# Altium footprint library MGNGSQ4_Dongles.PcbLib: 13 footprints
Each footprint in its own frame and in the unit in brackets; x right, y up, seen from the top. Pads: shape width x height; smd on the part's side, far side on the other; paste and mask are expansions set on the pad; w line width, h text height; cw(c..) or ccw(c..) is an arc to the next point about the centre after c.
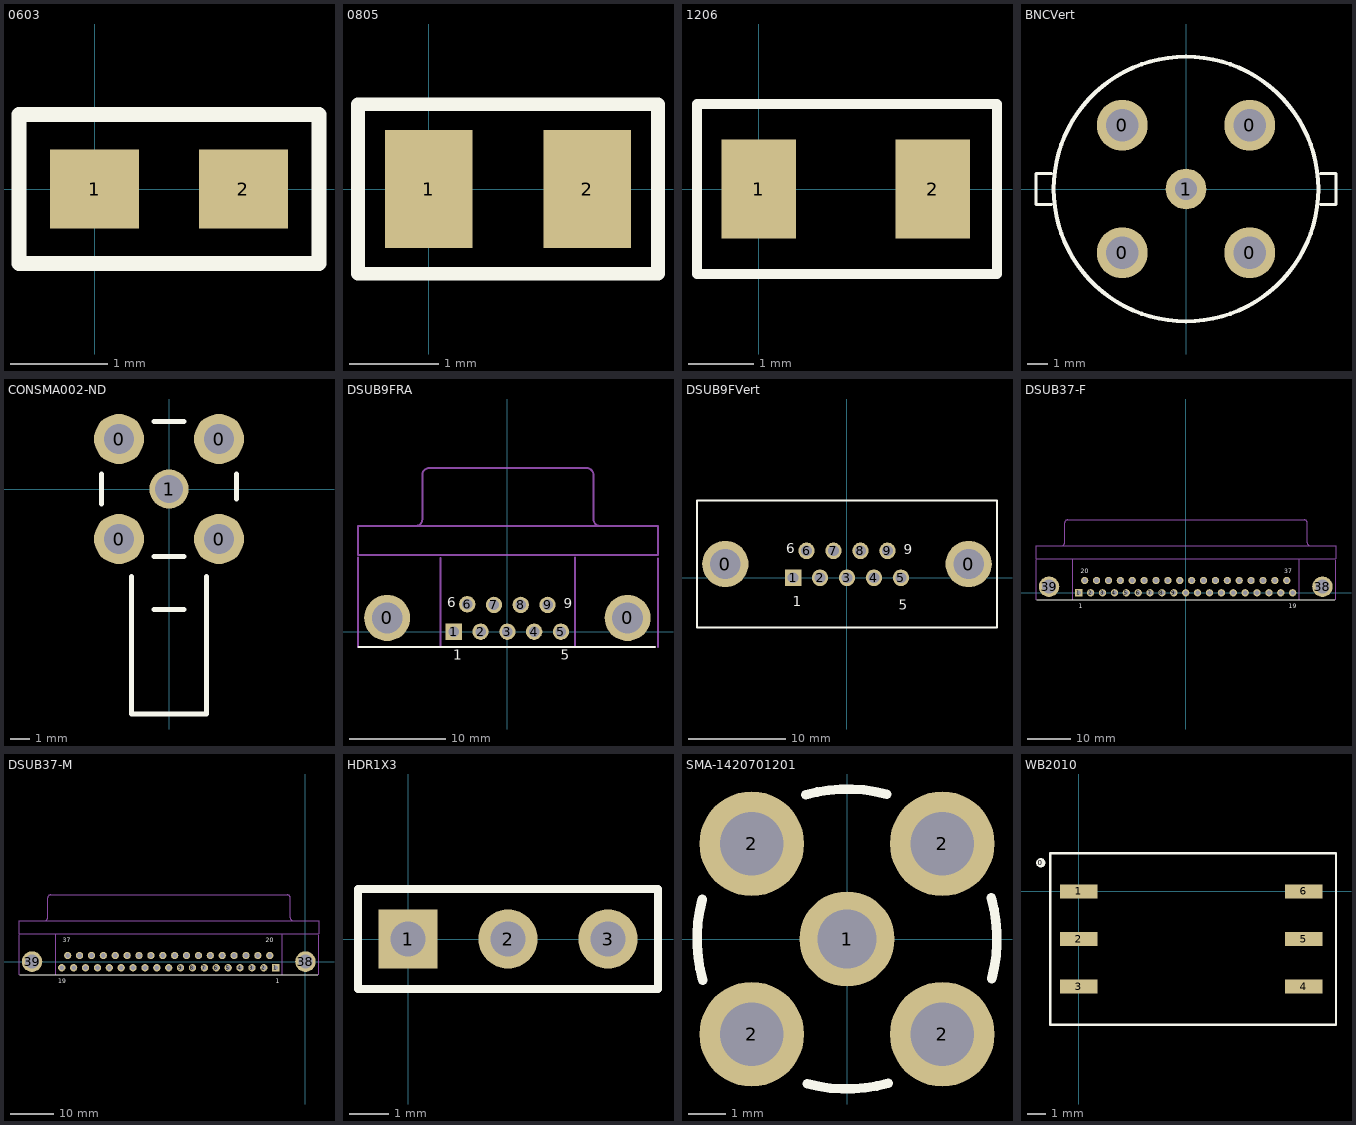
[diagram p0: the footprints below, top view; thin cyan lines are the x and y axes]

## 0603 [mil]
pads (2):
  rect 36x32 smd: 1(0,0) 2(60,0)
Top Overlay:
  lines w6: -30.5,-30 -30.5,30 90.5,30 90.5,-30 -30.5,-30
3D body: height 39.37, standoff 0, extent -15,-15 75,15

## 0805 [mil]
pads (2):
  rect 38.5x52 smd: 1(0,0) 2(70,0)
Top Overlay:
  lines w6: -31.25,-37.5 101.25,-37.5 101.25,37.5 -31.25,37.5 -31.25,-37.5

## 1206 [mil]
pads (2):
  rect 45x60 smd: 1(0,0) 2(105,0)
Top Overlay:
  lines w6: -37.4,-51.18 143.7,-51.18 143.7,51.18 -37.4,51.18 -37.4,-51.18
3D body: height 39.37, standoff 0, extent -30,-45 135,45

## BNCVert [mm] "BNCVert"
pads (5):
  round 2.5 hole 1.6: 0(-3.13,-3.13) 0(-3.13,3.13) 0(3.13,-3.13) 0(3.13,3.13)
  round 2 hole 1.1: 1(0,0)
Top Overlay:
  circle w0.2: c0,0 r6.5
  lines w0.127: -6.604,-0.762 -7.366,-0.762 -7.366,0.762 -6.604,0.762 ; 6.604,-0.762 7.366,-0.762 7.366,0.762 6.604,0.762

## CONSMA002-ND [mil]
pads (5):
  round 100 hole 60: 0(-100,-100) 0(-100,100) 0(100,-100) 0(100,100)
  round 78.74 hole 55.12: 1(0,0)
Top Overlay:
  lines w10: -135,-30 -135,30 ; -75,-175 -75,-450 75,-450 75,-175 ; -30,-241.3 30,-241.3 ; -30,-135 30,-135 ; -30,135 30,135 ; 135,-20 135,30

## DSUB9FRA [mm] "DSUB 9Pin Female Right Angle"
height 12.55
pads (11):
  round 4.76 hole 3.18: 0(-12.428,1.42) 0(12.432,1.42)
  rect 1.69x1.69 hole 1.09: 1(-5.54,0)
  round 1.69 hole 1.09: 2(-2.77,0) 3(0,0) 4(2.77,0) 5(5.54,0) 6(-4.155,2.84) 7(-1.385,2.77) 8(1.385,2.77) 9(4.155,2.77)
Top Overlay:
  lines w0.2: -15.381,-1.58 7.01,-1.58 15.277,-1.58
  text "9" at 5.842,2.413 h1.02
  text "1" at -5.588,-2.921 h1.02
  text "5" at 5.52,-2.921 h1.02
  text "6" at -6.223,2.54 h1.02
Mechanical 2:
  lines w0.2: -15.448,-1.58 -15.448,7.668 ; -9.493,10.925 ccw(c-9.493,11.62) -8.798,11.62 -8.798,16.22 ; -8.793,16.225 cw(c-8.098,16.225) -8.098,16.92 8.21,16.92 cw(c8.21,16.225) 8.905,16.225 ; -6.898,-1.58 -6.898,7.643 ; -6.898,7.92 -15.448,7.92 ; 7.01,-1.58 7.01,7.668 ; 8.91,16.22 8.91,11.62 ccw(c9.605,11.62) 9.605,10.925 ; 15.56,-1.58 15.56,7.567 ; 15.56,10.92 -15.448,10.92 -15.448,7.92 ; 15.579,10.92 15.579,7.92 -15.448,7.92

## DSUB9FVert [mm] "DSUB 9Pin Female Vertical"
height 12.55
pads (11):
  round 4.76 hole 3.1: 0(-12.493,1.42) 0(12.497,1.42)
  rect 1.69x1.69 hole 1.09: 1(-5.54,0)
  round 1.69 hole 1.09: 2(-2.77,0) 3(0,0) 4(2.77,0) 5(5.54,0) 6(-4.155,2.77) 7(-1.385,2.77) 8(1.385,2.77) 9(4.155,2.77)
Top Overlay:
  lines w0.2: -15.398,-5.08 -15.398,7.92 15.402,7.92 15.402,-5.08 -15.398,-5.08
  text "9" at 5.842,2.413 h1.02
  text "1" at -5.588,-2.921 h1.02
  text "5" at 5.334,-3.302 h1.02
  text "6" at -6.223,2.54 h1.02

## DSUB37-F [mm] "DSUB 37Pin Male"
height 12.55
pads (39):
  rect 1.69x1.69 hole 1.09: 1(-24.84,0)
  round 1.69 hole 1.09: 2(-22.08,0) 3(-19.32,0) 4(-16.56,0) 5(-13.8,0) 6(-11.04,0) 7(-8.28,0) 8(-5.52,0) 9(-2.76,0) 10(0,0) 11(2.76,0) 12(5.52,0) 13(8.28,0) 14(11.04,0) 15(13.8,0) 16(16.56,0) 17(19.32,0) 18(22.08,0) 19(24.84,0) 20(-23.461,2.84) 21(-20.701,2.84) 22(-17.941,2.84) 23(-15.181,2.84) 24(-12.421,2.84) 25(-9.661,2.84) 26(-6.901,2.84) 27(-4.141,2.84) 28(-1.381,2.84) 29(1.379,2.84) 30(4.139,2.84) 31(6.899,2.84) 32(9.659,2.84) 33(12.419,2.84) 34(15.179,2.84) 35(17.939,2.84) 36(20.699,2.84) 37(23.459,2.84)
  round 4.76 hole 3.26: 38(31.752,1.42) 39(-31.748,1.42)
Top Overlay:
  lines w0.2: -34.542,-1.58 26.33,-1.58 34.597,-1.58
  text "20" at -24.384,4.572 h1.02
  text "19" at 23.876,-3.556 h1.02
  text "1" at -24.892,-3.556 h1.02
  text "37" at 22.86,4.572 h1.02
Mechanical 2:
  lines w0.2: -34.768,-1.58 -34.768,7.668 ; -28.813,10.925 ccw(c-28.813,11.62) -28.118,11.62 -28.118,16.22 ; -28.113,16.225 cw(c-27.418,16.225) -27.418,16.92 27.53,16.92 cw(c27.53,16.225) 28.225,16.225 ; -26.218,-1.58 -26.218,7.643 ; 26.33,-1.58 26.33,7.668 ; 28.23,16.22 28.23,11.62 ccw(c28.925,11.62) 28.925,10.925 ; 34.88,-1.58 34.88,7.567 ; 34.88,7.92 -26.218,7.92 -34.768,7.92 -34.768,10.92 34.88,10.92 ; 34.899,7.92 34.899,10.92
3D body: height 12.55, standoff -3.17, extent -34.454,-2.032 34.863,17.043

## DSUB37-M [mm] "DSUB 37Pin Male"
height 12.55
pads (39):
  rect 1.69x1.69 hole 1.09: 1(-6.912,-1.42)
  round 1.69 hole 1.09: 2(-9.672,-1.42) 3(-12.432,-1.42) 4(-15.192,-1.42) 5(-17.952,-1.42) 6(-20.712,-1.42) 7(-23.472,-1.42) 8(-26.232,-1.42) 9(-28.992,-1.42) 10(-31.752,-1.42) 11(-34.512,-1.42) 12(-37.272,-1.42) 13(-40.032,-1.42) 14(-42.792,-1.42) 15(-45.552,-1.42) 16(-48.312,-1.42) 17(-51.072,-1.42) 18(-53.832,-1.42) 19(-56.592,-1.42) 20(-8.291,1.42) 21(-11.051,1.42) 22(-13.811,1.42) 23(-16.571,1.42) 24(-19.331,1.42) 25(-22.091,1.42) 26(-24.851,1.42) 27(-27.611,1.42) 28(-30.371,1.42) 29(-33.131,1.42) 30(-35.891,1.42) 31(-38.651,1.42) 32(-41.411,1.42) 33(-44.171,1.42) 34(-46.931,1.42) 35(-49.691,1.42) 36(-52.451,1.42) 37(-55.211,1.42)
  round 4.76 hole 3.26: 38(0,0) 39(-63.5,0)
Top Overlay:
  lines w0.2: -66.294,-3 -5.422,-3 2.845,-3
  text "37" at -56.334,4.525 h1.02
  text "1" at -6.892,-4.975 h1.02
  text "19" at -57.423,-4.978 h1.02
  text "20" at -9.163,4.547 h1.02
Mechanical 2:
  lines w0.2: -66.52,-3 -66.52,6.248 ; -60.565,9.505 ccw(c-60.565,10.2) -59.87,10.2 -59.87,14.8 ; -59.865,14.805 cw(c-59.17,14.805) -59.17,15.5 -4.222,15.5 cw(c-4.222,14.805) -3.527,14.805 ; -57.97,-3 -57.97,6.223 ; -5.422,-3 -5.422,6.248 ; -3.522,14.8 -3.522,10.2 ccw(c-2.827,10.2) -2.827,9.505 ; 3.128,-3 3.128,6.147 ; 3.128,6.5 -57.97,6.5 -66.52,6.5 -66.52,9.5 3.128,9.5 ; 3.147,6.5 3.147,9.5
3D body: height 12.55, standoff -3.17, extent -66.206,-3.452 3.111,15.7

## HDR1X3 [mm]
pads (3):
  rect 1.5x1.5 hole 0.889: 1(0,0)
  round 1.5 hole 0.889: 2(2.54,0) 3(5.08,0)
Top Overlay:
  lines w0.2: -1.27,-1.27 -1.27,1.27 6.35,1.27 6.35,-1.27 -1.27,-1.27

## PCBComponent_1 [mil]

## SMA-1420701201 [mil] "SMA 1420701201 Ghz Connector"
pads (5):
  round 100 hole 62: 1(0,0)
  round 110 hole 67: 2(-100,-100) 2(-100,100) 2(100,-100) 2(100,100)
Top Overlay:
  lines w10: -151.84,41.76 ccw(c0,0) -151.4,-43.33 ; -43.33,151.4 cw(c0,0) 41.76,151.84 ; -41.76,-151.84 ccw(c0,0) 43.33,-151.4 ; 151.4,43.33 cw(c0,0) 151.84,-41.76

## WB2010 [mm] "Transformer 1:1"
pads (7):
  round 0.508 on Top Overlay: 0(-2.032,1.524)
  rect 2x0.76 smd: 1(0,0) 2(0,-2.54) 3(0,-5.08) 4(12,-5.08) 5(12,-2.54) 6(12,0)
Top Overlay:
  lines w0.127: -1.524,-7.112 13.716,-7.112 13.716,2.032 -1.524,2.032 -1.524,-7.112